# Altium schematic symbol library Ind_TDK_MLG1005SR12JT000_120nH.SchLib: 1 symbol
Pins are listed as number, name and electrical type; pins without a type are passive.

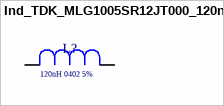
[diagram p0: symbol Ind_TDK_MLG1005SR12JT000_120nH]

## Ind_TDK_MLG1005SR12JT000_120nH
designator L?, comment Inductance: 120nH 0402 5%  (hidden comment: MLG1005SR12JT00)
Fixed Inductors 100nH 200mA 5%; Supplier 1: Mouser; Supplier Part Number 1: 810-MLG1005SR12JT000
footprint Ind_TDK_MLG1005SR12JT000_120nH
pins: 1, 2